# Altium footprint library WizPoE-IO-V001.PcbLib: 30 footprints (part 2 of 2)
Each footprint in its own frame and in the unit in brackets; x right, y up, seen from the top. Pads: shape width x height; smd on the part's side, far side on the other; paste and mask are expansions set on the pad; w line width, h text height; cw(c..) or ccw(c..) is an arc to the next point about the centre after c.
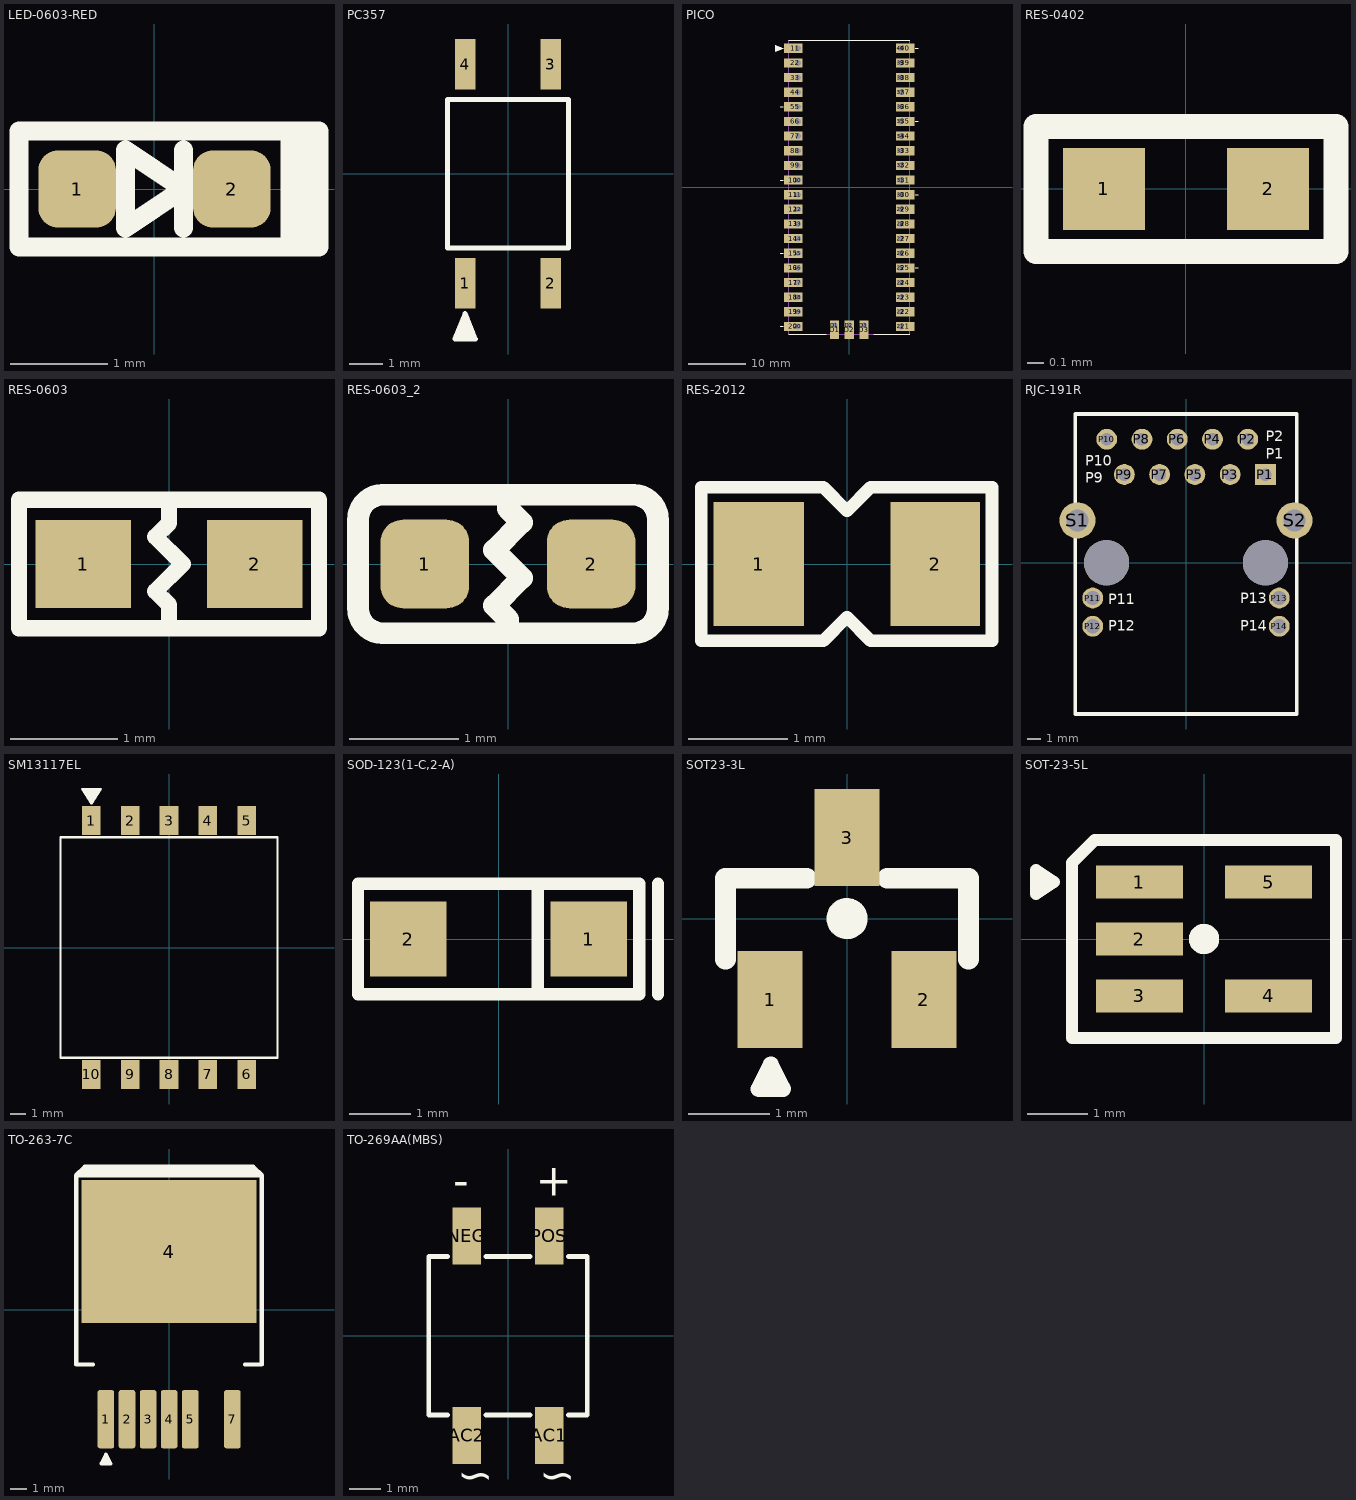
[diagram p1: the footprints below, top view; thin cyan lines are the x and y axes]

## LED-0603-RED [mm] "LED-0603-RED"
height 1
pads (2):
  rrect50% 0.8x0.8 smd: 1(-0.8,0) 2(0.8,0)
Top Overlay:
  lines w0.2: 0.3,-0.4 0.3,0.4 ; 1.4,-0.6 1.4,0.6 ; 1.5,-0.6 1.5,0.6 ; 1.6,-0.6 1.6,0.6 ; -1.4,-0.6 -1.4,0.6 1.7,0.6 1.7,-0.6 -1.4,-0.6 ; -0.3,-0.4 -0.3,0.4 0.3,0 -0.3,-0.4
3D body "LED-1608(Green).STEP": height 0.78, standoff -0.02, extent -0.8,-0.4 0.8,0.4

## PC357 [mm]
pads (4):
  rect 0.6x1.5 smd: 1(-1.27,-3.25) 2(1.27,-3.25) 3(1.27,3.25) 4(-1.27,3.25)
Top Overlay:
  region: -1.57,-4.9 -1.27,-4.15 -0.97,-4.9
  lines w0.15: -1.8,-2.2 1.8,-2.2 1.8,2.2 -1.8,2.2 -1.8,-2.2 ; -1.57,-4.9 -0.97,-4.9 -1.27,-4.15 -1.57,-4.9

## PICO [mm]
height 0.8
pads (86):
  rect 3.2x1.6 smd: 1(-9.69,24.13) 2(-9.69,21.59) 3(-9.69,19.05) 4(-9.69,16.51) 5(-9.69,13.97) 6(-9.69,11.43) 7(-9.69,8.89) 8(-9.69,6.35) 9(-9.69,3.81) 10(-9.69,1.27) 11(-9.69,-1.27) 12(-9.69,-3.81) 13(-9.69,-6.35) 14(-9.69,-8.89) 15(-9.69,-11.43) 16(-9.69,-13.97) 17(-9.69,-16.51) 18(-9.69,-19.05) 19(-9.69,-21.59) 20(-9.69,-24.13) 21(9.69,-24.13) 22(9.69,-21.59) 23(9.69,-19.05) 24(9.69,-16.51) 25(9.69,-13.97) 26(9.69,-11.43) 27(9.69,-8.89) 28(9.69,-6.35) 29(9.69,-3.81) 30(9.69,-1.27) 31(9.69,1.27) 32(9.69,3.81) 33(9.69,6.35) 34(9.69,8.89) 35(9.69,11.43) 36(9.69,13.97) 37(9.69,16.51) 38(9.69,19.05) 39(9.69,21.59) 40(9.69,24.13)
  round 1.6 hole 1: 1(-8.89,24.13) 2(-8.89,21.59) 3(-8.89,19.05) 4(-8.89,16.51) 5(-8.89,13.97) 6(-8.89,11.43) 7(-8.89,8.89) 8(-8.89,6.35) 9(-8.89,3.81) 10(-8.89,1.27) 11(-8.89,-1.27) 12(-8.89,-3.81) 13(-8.89,-6.35) 14(-8.89,-8.89) 15(-8.89,-11.43) 16(-8.89,-13.97) 17(-8.89,-16.51) 18(-8.89,-19.05) 19(-8.89,-21.59) 20(-8.89,-24.13) 21(8.89,-24.13) 22(8.89,-21.59) 23(8.89,-19.05) 24(8.89,-16.51) 25(8.89,-13.97) 26(8.89,-11.43) 27(8.89,-8.89) 28(8.89,-6.35) 29(8.89,-3.81) 30(8.89,-1.27) 31(8.89,1.27) 32(8.89,3.81) 33(8.89,6.35) 34(8.89,8.89) 35(8.89,11.43) 36(8.89,13.97) 37(8.89,16.51) 38(8.89,19.05) 39(8.89,21.59) 40(8.89,24.13) D1(-2.54,-23.9) D2(0,-23.9) D3(2.54,-23.9)
  rect 1.6x3.2 smd: D1(-2.54,-24.7) D2(0,-24.7) D3(2.54,-24.7)
Top Overlay:
  region: -12.75,23.601 -12.75,24.659 -11.44,24.13
  lines w0.1: -10.5,-25.5 -4,-25.5 -10.5,-25.5 ; -10.5,25.5 10.5,25.5 -10.5,25.5 ; 4.25,-25.5 10.5,-25.5 4.25,-25.5
  lines w0.15: -11.97,-24.13 -11.44,-24.13 ; -11.97,-11.43 -11.44,-11.43 ; -11.97,1.27 -11.44,1.27 ; -11.97,13.97 -11.44,13.97 ; 11.44,-13.97 11.97,-13.97 ; 11.44,-1.27 11.97,-1.27 ; 11.44,11.43 11.97,11.43 ; 11.44,24.13 11.97,24.13 ; -12.75,23.601 -11.44,24.13 -12.75,24.659 -12.75,23.601
Mechanical 13:
  lines w0.2: -10.5,-25.5 -10.5,25.5 10.5,25.5 10.5,-25.5 -10.5,-25.5
3D body "PICO.stp": height 3.69, standoff 0, extent -10.5,-25.47 10.5,26.956

## RES-0402 [mm]
pads (2):
  rect 0.5x0.5 smd: 1(-0.5,0) 2(0.5,0)
Top Overlay:
  lines w0.152: -0.914,-0.381 0.914,-0.381 0.914,0.381 -0.914,0.381 -0.914,-0.381
3D body "RES_C1005X04N.STEP": height 0.35, standoff 0, extent -0.5,-0.254 0.5,0.246

## RES-0603 [mm] "RES-0603"
height 1
pads (2):
  rect 0.89x0.82 smd: 1(-0.8,0) 2(0.8,0)
Top Overlay:
  lines w0.152: 0,-0.6 0,-0.381 -0.127,-0.254 0.127,0 -0.127,0.254 0,0.381 0,0.6 ; -1.4,-0.6 -1.4,0.6 1.4,0.6 1.4,-0.6 -1.4,-0.6
3D body "User Library-Resistors0603.STEP": height 0.46, standoff -0.01, extent -0.824,-0.412 0.825,0.413

## RES-0603_2 [mil]
pads (2):
  rrect50% 32x32 smd: 1(-30,0) 2(30,0)
Top Overlay:
  lines w7.87: 0,-25 0,-20 -5,-15 5,-5 -5,5 5,15 0,20 0,25 ; -54.13,-15.75 ccw(c-45.08,-15.94) -45.28,-25 45.28,-25 ccw(c45.08,-15.94) 54.13,-15.75 54.13,15.75 ccw(c45.08,15.94) 45.28,25 -45.28,25 ccw(c-45.08,15.94) -54.13,15.75 -54.13,-15.75
3D body "User Library-Resistors0603.STEP": height 18.21, standoff -0.49, extent -31.58,-16.24 31.58,16.24

## RES-2012 [mil]
height 31.5
pads (2):
  rect 36x49 smd: 1(-35,0)
  rect 35.43x49 smd: 2(35,0)
Top Overlay:
  lines w5: -9.66,-30.45 -57.77,-30.45 -57.77,30.45 -9.66,30.45 ; -9.39,-30.45 0,-21.06 9.39,-30.45 57.5,-30.45 57.5,30.45 9.39,30.45 0,21.06 -9.39,30.45
3D body "0805 SMD Resistor.STEP": height 30.79, standoff 0, extent -39.5,-24.71 39.24,24.5

## RJC-191R [mm]
pads (18):
  rect 1.5x1.5 hole 0.9: P1(5.72,6.35)
  round 1.5 hole 0.9: P2(4.45,8.89) P3(3.18,6.35) P4(1.91,8.89) P5(0.64,6.35) P6(-0.63,8.89) P7(-1.9,6.35) P8(-3.17,8.89) P9(-4.44,6.35) P10(-5.71,8.89)
  round 1.5 hole 1.02: P11(-6.715,-2.54) P12(-6.715,-4.57) P13(6.715,-2.54) P14(6.715,-4.57)
  round 2.6 hole 1.6: S1(-7.815,3.05) S2(7.815,3.05)
  round 3.25 hole 3.25 unplated: ""(-5.715,0) ""(5.715,0)
Top Overlay:
  lines w0.254: -7.975,-10.89 7.975,-10.89 7.975,10.71 -7.975,10.71 -7.975,-10.89
  text "P12" at -5.6,-4.9 h0.76
  text "P11" at -5.6,-3 h0.76
  text "P14" at 3.9,-4.9 h0.76
  text "P2" at 5.75,8.75 h0.76
  text "P1" at 5.75,7.5 h0.76
  text "P9" at -7.25,5.75 h0.76
  text "P10" at -7.25,7 h0.76
  text "P13" at 3.9,-2.9 h0.76
3D body: height 23.35, standoff 0, extent -7.975,-10.89 7.975,10.71

## SM13117EL [mm]
pads (10):
  rect 1.2x1.88 smd: 1(-5,8.18) 2(-2.5,8.18) 3(0,8.18) 4(2.5,8.18) 5(5,8.18) 6(5,-8.18) 7(2.5,-8.18) 8(0,-8.18) 9(-2.5,-8.18) 10(-5,-8.18)
Top Overlay:
  region: -5,9.28 -5.6,10.22 -4.4,10.22
  lines w0.15: -7,-7.1 7,-7.1 7,7.1 -7,7.1 -7,-7.1 ; -5.6,10.22 -4.4,10.22 -5,9.28 -5.6,10.22

## SOD-123(1-C,2-A) [mm]
pads (2):
  rect 1.25x1.22 smd: 1(1.475,0) 2(-1.475,0)
Top Overlay:
  lines w0.203: 0.635,-0.9 0.635,0.9 ; 2.603,-0.9 2.603,0.9 ; -2.3,-0.9 2.3,-0.9 2.3,0.9 -2.3,0.9 -2.3,-0.9
3D body "User Library-SOD-123_DiodesInc.step": height 1.42, standoff -0.03, extent -1.91,-0.883 1.94,0.817

## SOT23-3L [mm]
pads (3):
  rect 0.8x1.2 smd paste-0.07: 1(-0.95,-1) 2(0.95,-1) 3(0,1)
Top Overlay:
  circle w0.254: c0,0 r0.127
  lines w0.2: -0.94,-1.803 -0.791,-2.1
  lines w0.203: -0.94,-1.803 -1.09,-2.103 -0.798,-2.103
  lines w0.254: -1.5,-0.5 -1.5,0.5 -0.5,0.5 ; 0.5,0.5 1.5,0.5 1.5,-0.5
3D body "SOT23.STEP": height 1.28, standoff 0, extent -1.45,-1.4 1.45,1.4

## SOT-23-5L [mm]
height 0.8
pads (5):
  rect 1.45x0.55 smd: 1(-1.075,0.95) 2(-1.075,0) 3(-1.075,-0.95) 4(1.075,-0.95) 5(1.075,0.95)
Top Overlay:
  circle w0.254: c0,0 r0.127
  lines w0.203: -2.8,0.95 -2.5,0.95 ; -2.5,0.95 -2.8,0.75 -2.8,1.15 -2.5,0.95 ; -2.2,-1.65 2.2,-1.65 2.2,1.65 -1.82,1.65 -2.2,1.27 -2.2,-1.65
3D body "User Library-SOT23-5-2.step": height 1.45, standoff 0, extent -1.4,-1.45 1.4,1.45

## TO-263-7C [mm]
pads (7):
  rrect25% 1x3.5 smd: 1(-3.8,-6.6) 2(-2.53,-6.6) 3(-1.26,-6.6) 4(0.01,-6.6) 5(1.28,-6.6) 7(3.82,-6.6)
  rect 10.55x8.6 smd: 4(0,3.5)
Top Overlay:
  lines w0.203: -3.8,-9.297 -3.8,-8.697 ; -3.586,-9.126 -3.929,-9.126 -4.1,-9.297 ; -4.1,-9.297 -3.8,-8.697 ; -4.1,-9.297 -3.5,-9.297 -3.8,-8.697
  lines w0.254: -4.572,-3.302 -5.588,-3.302 -5.588,8.097 ; 4.572,-3.302 5.588,-3.302 5.588,8.097 ; -5.588,8.097 -5.08,8.605 5.08,8.605 5.588,8.097 ; -5.588,8.097 5.588,8.097
  lines w0.508: -5.08,8.351 -2.794,8.351 5.08,8.351
3D body "SW3dPS-TO263-7-1.STEP": height 4.78, standoff -0.02, extent -5,-7.784 5,7.886

## TO-269AA(MBS) [mm]
height 0.8
pads (4):
  rect 0.9x1.8 smd: AC1(1.3,-3.15) AC2(-1.3,-3.15) NEG(-1.3,3.15) POS(1.3,3.15)
Top Overlay:
  lines w0.15: -1.9,-2.5 -2.5,-2.5 -2.5,2.5 -1.9,2.5 ; -0.7,-2.5 0.7,-2.5 ; -0.7,2.5 0.7,2.5 ; 1.9,-2.5 2.5,-2.5 2.5,2.5 1.9,2.5
  text "+" at 0.872,4.422 h1
  text "-" at -1.728,4.422 h1
  text "~" at 0.991,-4.017 h1
  text "~" at -1.609,-4.017 h1